# EAGLE library part 690_357_28_6_76 (library SHC)
MM MALE SMT CONNECTOR WITHOUT LATCH AND WITHOUT POLARIZATION
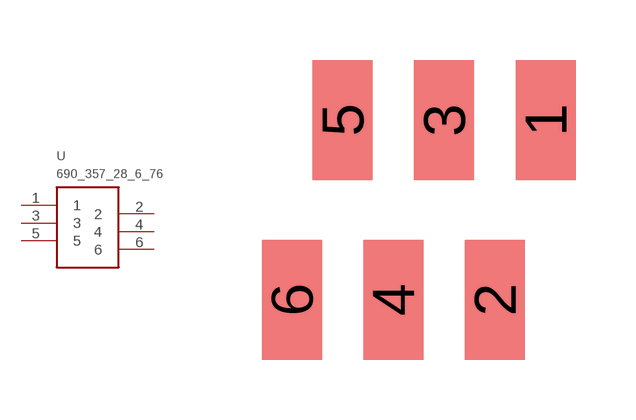
[diagram p15: symbol with the pads of 690_357_28_6_76; footprint 690_357_28_6_76]

Designator prefix -

## 690_357_28_6_76  [690_357_28_6_76]
1  1
2  2
3  3
4  4
5  5
6  6

## Footprint 690_357_28_6_76 (pad centres in mm)
smd 1.5 x 3: 1 3.31,2.5; 2 2.04,-2; 3 0.77,2.5; 4 -0.5,-2; 5 -1.77,2.5; 6 -3.04,-2